# EAGLE library part MCP41XXX (library mcp41xxx)
The MCP41XXX and MCP42XXX devices are 256- position, digital potentiometers available in 10 kΩ, 50 kΩ and 100 kΩ resistance versions.
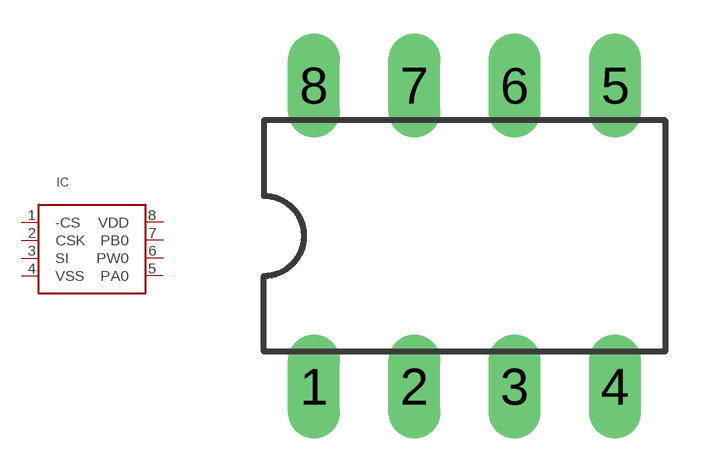
[diagram p0: symbol with the pads of DIL08; footprint DIL08]

Designator prefix IC

## MCP41XXX  [DIL08]
1  -CS
2  CSK
3  SI
4  VSS  pwr
5  PA0  out
6  PW0  out
7  PB0  out
8  VDD  pwr

## Footprint DIL08 (pad centres in mm)
Dual In Line Package
drill 0.813 long: 1 -3.81,-3.81; 2 -1.27,-3.81; 3 1.27,-3.81; 4 3.81,-3.81; 5 3.81,3.81; 6 1.27,3.81; 7 -1.27,3.81; 8 -3.81,3.81